# EAGLE library part MCP4725A0T-E_CH (library MCP4725A0T-E_CH)
D/A Converter 12-Bit EEPROM I2C SOT23-6 Source: Datasheet <http://ww1.microchip.com/downloads/en/DeviceDoc/22039d.pdf>
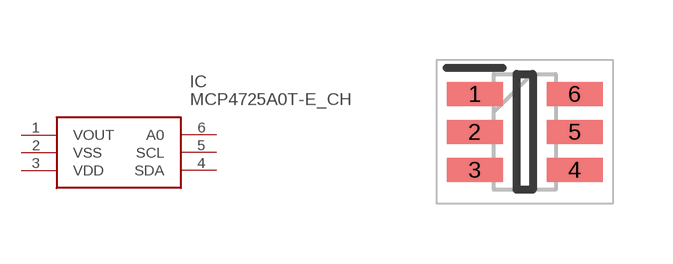
[diagram p0: symbol with the pads of SOT95P270X145-6N; footprint SOT95P270X145-6N]

Designator prefix IC

## MCP4725A0T-E_CH (Description: D/A Converter 12-Bit EEPROM I2C SOT23-6; Height: 1.45mm; Manufacturer_Name: Microchip; Manufacturer_Part_Number: MCP4725A0T-E/CH; Mouser_Part_Number: 579-MCP4725A0TECH; Mouser_Price-Stock: https://www.mouser.co.uk/ProductDetail/Microchip-Technology/MCP4725A0T-E-CH?qs=vkMqrgFpRajeQECZ3goc0A%3D%3D)  [SOT95P270X145-6N]
1  VOUT
2  VSS
3  VDD
4  SDA
5  SCL
6  A0

## Footprint SOT95P270X145-6N (pad centres in mm)
6-Lead Plastic Small Outline Transistor (CHY) [SOT-23]
smd 1.4 x 0.6: 1 -1.25,0.95; 2 -1.25,0; 3 -1.25,-0.95; 4 1.25,-0.95; 5 1.25,0; 6 1.25,0.95